# Altium footprint library uControllerTemplate2021.PcbLib: 22 footprints (part 2 of 2)
Each footprint in its own frame and in the unit in brackets; x right, y up, seen from the top. Pads: shape width x height; smd on the part's side, far side on the other; paste and mask are expansions set on the pad; w line width, h text height; cw(c..) or ccw(c..) is an arc to the next point about the centre after c.
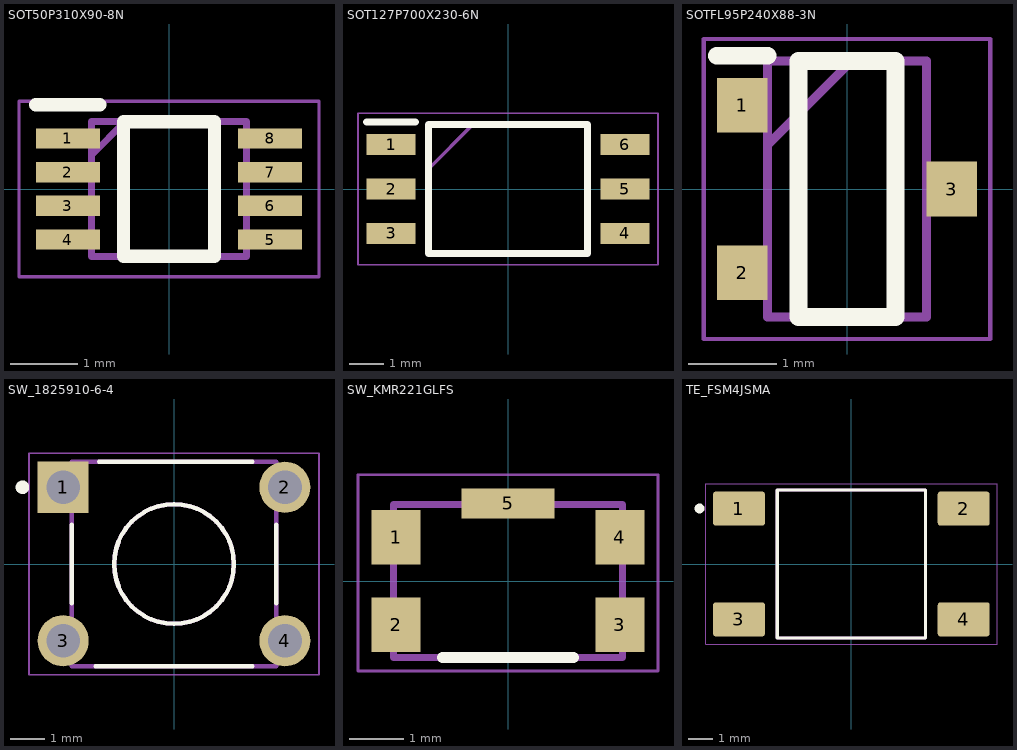
[diagram p1: the footprints below, top view; thin cyan lines are the x and y axes]

## SOT50P310X90-8N [mm]
pads (8):
  rect 0.95x0.3 smd: 1(-1.5,0.75) 2(-1.5,0.25) 3(-1.5,-0.25) 4(-1.5,-0.75) 5(1.5,-0.75) 6(1.5,-0.25) 7(1.5,0.25) 8(1.5,0.75)
Top Overlay:
  lines w0.2: -1.975,1.25 -1.025,1.25 ; -0.675,-1 -0.675,1 0.675,1 0.675,-1 -0.675,-1
Mechanical 13:
  lines w0.1: -1.15,0.5 -0.65,1 ; -1.15,-1 -1.15,1 1.15,1 1.15,-1 -1.15,-1
Mechanical 15:
  lines w0.05: -2.225,-1.3 -2.225,1.3 2.225,1.3 2.225,-1.3 -2.225,-1.3
3D body "SN74AUP1G74DCUR.stp": height 0.9, standoff 0, extent -1.55,-1 1.55,1

## SOT127P700X230-6N [mm]
pads (6):
  rect 1.4x0.6 smd: 1(-3.35,1.27) 2(-3.35,0) 3(-3.35,-1.27) 4(3.35,-1.27) 5(3.35,0) 6(3.35,1.27)
Top Overlay:
  lines w0.2: -4.05,1.92 -2.65,1.92 ; -2.275,-1.85 2.275,-1.85 2.275,1.85 -2.275,1.85 -2.275,-1.85
Mechanical 13:
  lines w0.1: -2.275,0.58 -1.005,1.85 ; -2.275,-1.85 2.275,-1.85 2.275,1.85 -2.275,1.85 -2.275,-1.85
Mechanical 15:
  lines w0.05: -4.3,-2.175 4.3,-2.175 4.3,2.175 -4.3,2.175 -4.3,-2.175
3D body "TLP116A_TPL,E.stp": height 2.3, standoff 0, extent -3.5,-1.85 3.5,1.85

## SOTFL95P240X88-3N [mm]
pads (3):
  rect 0.575x0.62 smd: 1(-1.188,0.95) 2(-1.188,-0.95) 3(1.188,0)
Top Overlay:
  lines w0.2: -1.475,1.51 -0.9,1.51 ; -0.55,-1.45 0.55,-1.45 0.55,1.45 -0.55,1.45 -0.55,-1.45
Mechanical 13:
  lines w0.1: -0.9,0.5 0.05,1.45 ; -0.9,-1.45 0.9,-1.45 0.9,1.45 -0.9,1.45 -0.9,-1.45
Mechanical 15:
  lines w0.05: -1.625,-1.7 1.625,-1.7 1.625,1.7 -1.625,1.7 -1.625,-1.7
3D body "SSM3K339R,LF.stp": height 0.88, standoff 0, extent -1.2,-1.45 1.2,1.45

## SW_1825910-6-4 [mm]
pads (4):
  rect 1.498x1.498 hole 0.99: 1(-3.25,2.25)
  round 1.498 hole 0.99: 2(3.25,2.25) 3(-3.25,-2.25) 4(3.25,-2.25)
Top Overlay:
  circle w0.127: c0,0 r1.755
  circle w0.2: c-4.445,2.25 r0.1
  lines w0.127: -2.995,-1.15 -2.995,1.15 ; -2.3,-2.995 2.3,-2.995 ; -2.2,2.995 2.3,2.995 ; 3,-1.15 3,1.15
Mechanical 13:
  circle w0.127: c0,0 r1.755
  lines w0.127: -2.995,-2.995 -2.995,2.995 2.995,2.995 2.995,-2.995 -2.995,-2.995
Mechanical 15:
  lines w0.05: -4.25,-3.25 -4.25,3.25 4.25,3.25 4.25,-3.25 -4.25,-3.25
3D body "FSM4JH(1825910-6).step": height 5, standoff -3.51, extent -3.898,-2.995 3.9,2.995

## SW_KMR221GLFS [mm]
pads (5):
  rect 0.9x1 smd: 1(-2.05,0.8) 2(-2.05,-0.8) 3(2.05,-0.8) 4(2.05,0.8)
  rect 1.7x0.55 smd: 5(0,1.425)
Top Overlay:
  lines w0.2: -1.2,-1.4 1.2,-1.4
Mechanical 13:
  lines w0.127: -2.1,-1.4 -2.1,1.4 2.1,1.4 2.1,-1.4 -2.1,-1.4
Mechanical 15:
  lines w0.05: -2.75,-1.65 -2.75,1.95 2.75,1.95 2.75,-1.65 -2.75,-1.65
3D body "KMR221GLFS--3DModel-STEP-56544.STEP": height 1.85, standoff -0.05, extent -2.3,-1.4 2.3,1.4

## TE_FSM4JSMA [mm]
pads (4):
  rrect15% 2.1x1.38 smd: 1(-4.55,2.24) 2(4.55,2.24) 3(-4.55,-2.24) 4(4.55,-2.24)
Top Overlay:
  circle w0.2: c-6.151,2.249 r0.1
  lines w0.127: -3,-3 3,-3 3,3 -3,3 -3,-3
Mechanical 13:
  lines w0.127: -3,-3 -3,3 3,3 3,-3 -3,-3
Mechanical 15:
  lines w0.05: -5.9,-3.25 -5.9,3.25 5.9,3.25 5.9,-3.25 -5.9,-3.25
3D body "FSM4JSMA.STEP": height 4.98, standoff -0.15, extent -5,-3 5,3